# Altium schematic symbol library ARMflash_revC.SCHLIB: 113 symbols (part 2 of 2)
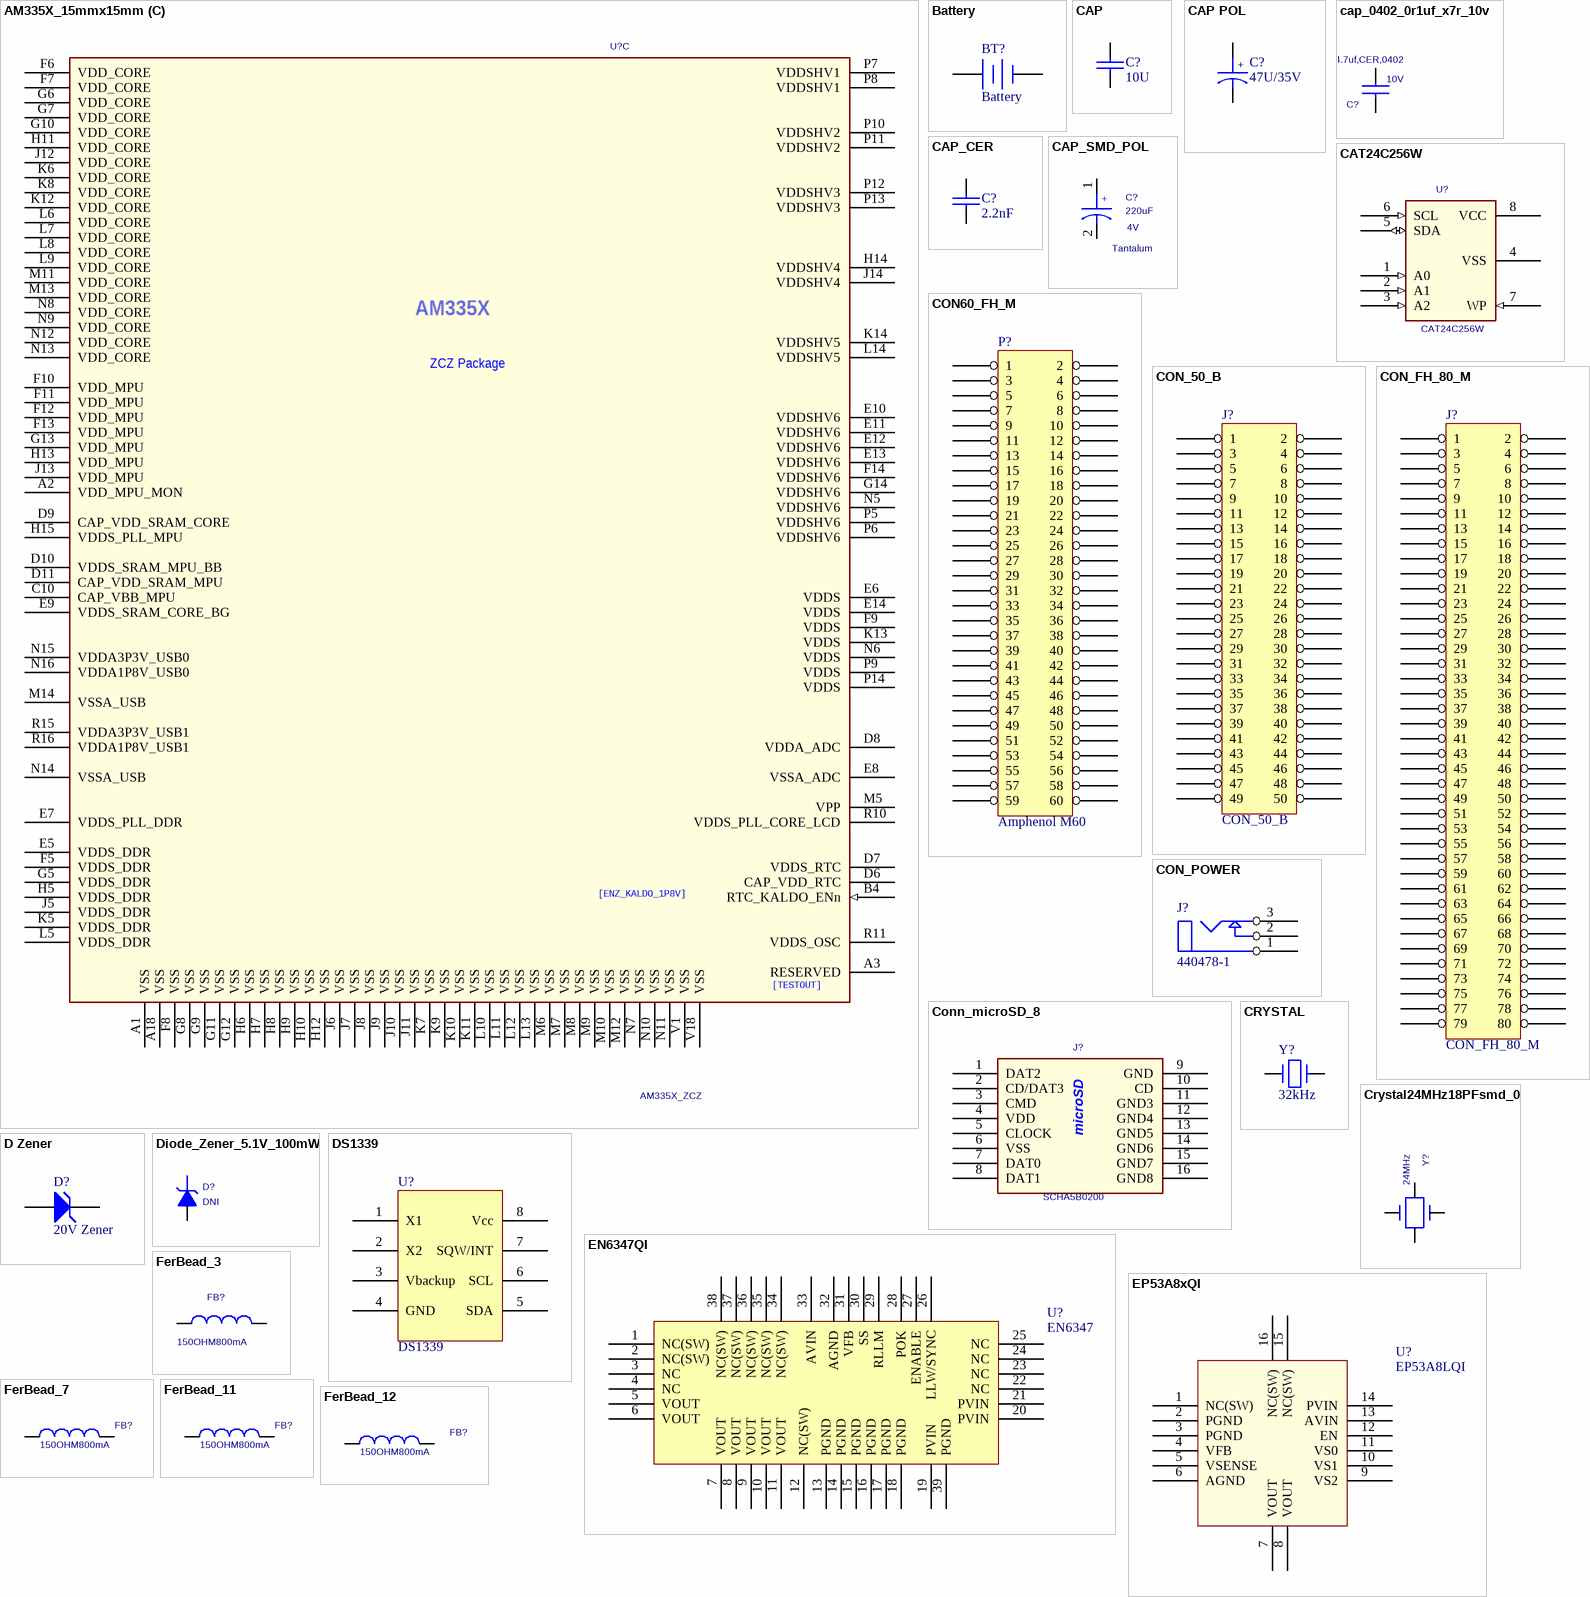
[diagram p9: symbols AM335X_15mmx15mm to FerBead_12]

## EN6347QI
designator U?, comment EN6347
4A PSU power module
footprint EN6347QI - DFN (Enpirion PSU)
pins: 1 NC(SW), 2 NC(SW), 3 NC, 4 NC, 5 VOUT, 6 VOUT, 7 VOUT, 8 VOUT, 9 VOUT, 10 VOUT, 11 VOUT, 12 NC(SW), 13 PGND, 14 PGND, 15 PGND, 16 PGND, 17 PGND, 18 PGND, 19 PVIN, 20 PVIN, 21 PVIN, 22 NC, 23 NC, 24 NC, 25 NC, 26 LLW/SYNC, 27 ENABLE, 28 POK, 29 RLLM, 30 SS, 31 VFB, 32 AGND, 33 AVIN, 34 NC(SW), 35 NC(SW), 36 NC(SW), 37 NC(SW), 38 NC(SW), 39 PGND

## EP53A8xQI
designator U?, comment EP53A8LQI
footprint LCC 16pin 3x3 mm (EP53A8)
pins: 1 NC(SW), 2 PGND, 3 PGND, 4 VFB, 5 VSENSE, 6 AGND, 7 VOUT, 8 VOUT, 9 VS2, 10 VS1, 11 VS0, 12 EN, 13 AVIN, 14 PVIN, 15 NC(SW), 16 NC(SW)

## FerBead_3
designator FB?, comment 150OHM800mA
Ferrite Bead 150 Ohm 800mA; Mfr: Steward; MfrNum: LI0805H151R-10; TIIntPartnumber: 1L0010; Vendor: Digikey; Cost100: 0.068; Cost10K: 0.045; DescriptiveText: Ferrite Bead 150 Ohm 800mA; PartName: FerriteBead150ohm800mA; Descriptive_Text: Ferrite Bead 150 Ohm 800mA
footprint sm-7351-ind-0805 (SM-7351-IND-0805)
footprint sm-7351-ind-0805
pins: 1, 2

## FerBead_7
designator FB?, comment 150OHM800mA
Ferrite Bead 150 Ohm 800mA; Mfr: Steward; MfrNum: LI0805H151R-10; TIIntPartnumber: 1L0010; Vendor: Digikey; Cost100: 0.068; Cost10K: 0.045; DescriptiveText: Ferrite Bead 150 Ohm 800mA; PartName: FerriteBead150ohm800mA; Descriptive_Text: Ferrite Bead 150 Ohm 800mA
footprint sm-7351-ind-0805
footprint sm-7351-ind-0805
pins: 1, 2

## FerBead_11
designator FB?, comment 150OHM800mA
Ferrite Bead 150 Ohm 800mA; Mfr: Steward; MfrNum: LI0805H151R-10; TIIntPartnumber: 1L0010; Vendor: Digikey; Cost100: 0.068; Cost10K: 0.045; DescriptiveText: Ferrite Bead 150 Ohm 800mA; PartName: FerriteBead150ohm800mA; Descriptive_Text: Ferrite Bead 150 Ohm 800mA
footprint sm-7351-ind-0805
footprint sm-7351-ind-0805
pins: 1, 2

## FerBead_12
designator FB?, comment 150OHM800mA
Ferrite Bead 150 Ohm 800mA; Mfr: Steward; MfrNum: LI0805H151R-10; TIIntPartnumber: 1L0010; Vendor: Digikey; Cost100: 0.068; Cost10K: 0.045; DescriptiveText: Ferrite Bead 150 Ohm 800mA; PartName: FerriteBead150ohm800mA; Descriptive_Text: Ferrite Bead 150 Ohm 800mA
footprint sm-7351-ind-0805
footprint sm-7351-ind-0805
pins: 1, 2

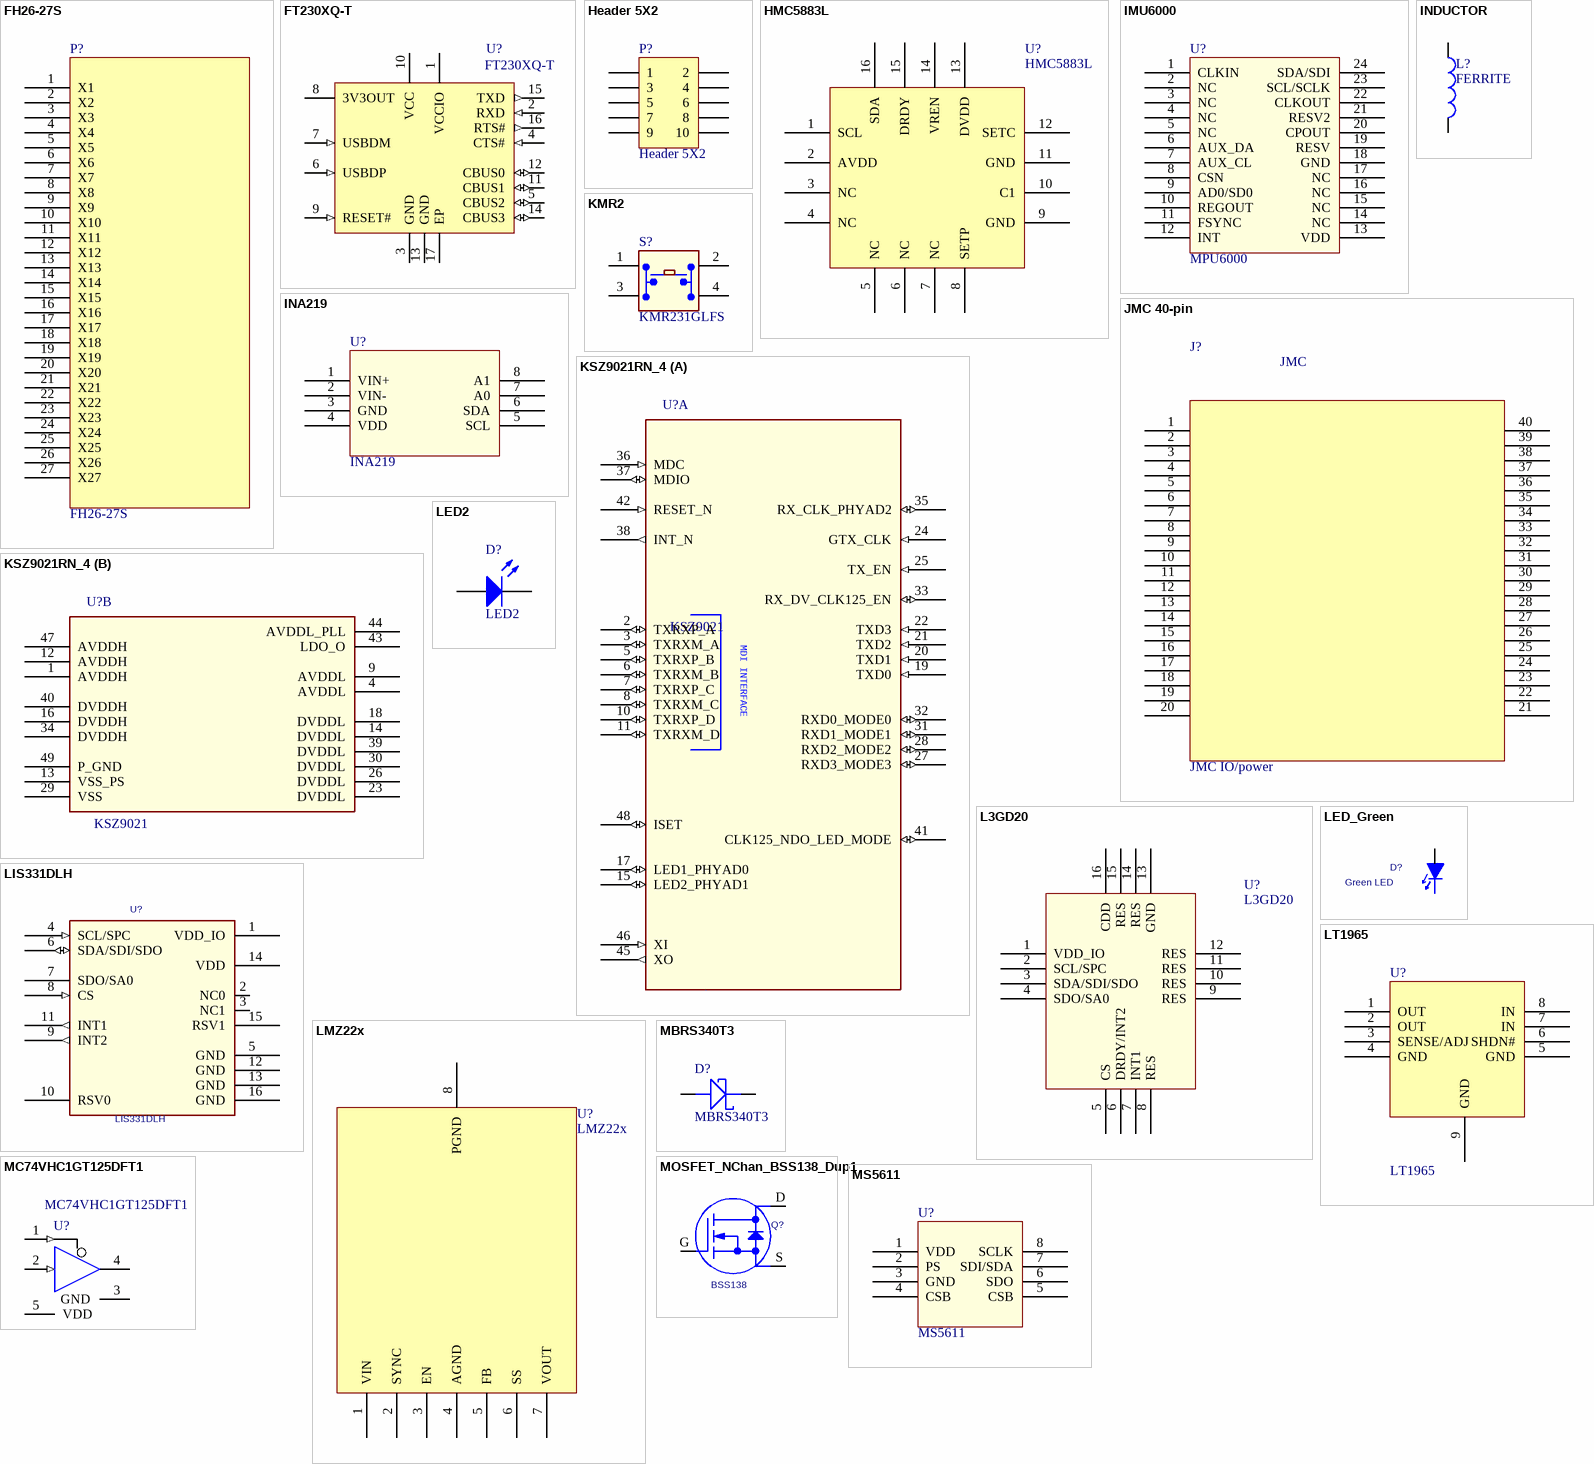
[diagram p7: symbols FH26-27S to MS5611]

## FH26-27S
designator P?
Flexible PCB connector
footprint FH26-27S (Flexible Board ZIF connector)
pins: 1 X1, 2 X2, 3 X3, 4 X4, 5 X5, 6 X6, 7 X7, 8 X8, 9 X9, 10 X10, 11 X11, 12 X12, 13 X13, 14 X14, 15 X15, 16 X16, 17 X17, 18 X18, 19 X19, 20 X20, 21 X21, 22 X22, 23 X23, 24 X24, 25 X25, 26 X26, 27 X27

## FT230XQ-T
designator U?
USB to Basic UART Interface Chip, UHCI/OHCI/EHCI Compatible, USB 2.0 Compatible, -40 to +85 degC, 16-Pin QFN, Pb-Free, Tray; Manufacturer: FTDI; DatasheetVersion: ver 1.2, Feb-2013; PackageVersion: Feb-13; PackageReference: QFN-16; PackageDescription: 16-Pin Quad Flat No-Lead, 4x4 mm Body, 0.65 mm Pitch; Code_JEDEC: MO-220WGGC; PartNumber: FT230XQ-T; ComponentLink1Description: Manufacturer URL; ComponentLink1URL: http://www.ftdichip.com/; ComponentLink2Description: Datasheet; ComponentLink2URL: http://www.ftdichip.com/Support/Documents/DataSheets/ICs/DS_FT230X.pdf; ComponentLink3Description: FT230X Product Page; ComponentLink3URL: www.ftdichip.com/Products/ICs/FT230X.html
footprint QFN-16_N
footprint QFN-16_L (QFN, 16-Leads, Body 4x4mm, Pitch 0.65mm, Thermal Pad 2.1x2.1mm, IPC High Density)
footprint QFN-16_M (QFN, 16-Leads, Body 4x4mm, Pitch 0.65mm, Thermal Pad 2.1x2.1mm, IPC Low Density)
pins: 1 VCCIO (power) "1V8 -3V3 supply for the IO cells.", 2 RXD (in) "Receiving Asynchronous Data Input.", 3 GND (power) "0V Ground input.", 4 CTS# (in) "Clear To Send Control Input / Handshake Signal.", 5 CBUS2 (io) "Configurable CBUS I/O Pin. Function of this pin is configured in the device MTP memory. The default configuration is TXLED#.", 6 USBDP (in) "USB Data Signal Plus.", 7 USBDM (in) "USB Data Signal Minus.", 8 3V3OUT (power) "3V3 output at 50mA. May be used to power VCCIO. When VCC is 3V3; pin 8 is an input pin and should be connected to pin 10.", 9 RESET# (in) "Reset input (active low).", 10 VCC (power) "5 V (or 3V3) supply to IC.", 11 CBUS1 (io) "Configurable CBUS I/O Pin. Function of this pin is configured in the device MTP memory. The default configuration is RXLED#.", 12 CBUS0 (io) "Configurable CBUS I/O Pin. Function of this pin is configured in the device MTP memory. The default configuration is TXDEN.", 13 GND (power) "0V Ground input.", 14 CBUS3 (io) "Configurable CBUS I/O Pin. Function of this pin is configured in the device MTP memory. The default configuration is SLEEP#.", 15 TXD (out) "Transmit Asynchronous Data Output.", 16 RTS# (out) "Request to Send Control Output / Handshake Signal.", 17 EP (power) "Exposed Pad. Connect to GND."

## Header 5X2
designator P?
Header, 5-Pin, Dual row; LatestRevisionDate: 17-Jul-2002; LatestRevisionNote: Re-released for DXP Platform.; Publisher: Altium Limited
footprint HDR2X5 (Connector; Header; 5x2 Position)
signal-integrity model Connector
pins: 1, 2, 3, 4, 5, 6, 7, 8, 9, 10

## HMC5883L
designator U?
3D Magnetometer
footprint LPCC package (LCC, 16-Pins, Body 3.0x3.0mm (max), Pitch 0.50mm, IPC Medium Density)
pins: 1 SCL, 2 AVDD, 3 NC, 4 NC, 5 NC, 6 NC, 7 NC, 8 SETP, 9 GND, 10 C1, 11 GND, 12 SETC, 13 DVDD, 14 VREN, 15 DRDY, 16 SDA

## IMU6000
designator U?, comment MPU6000
Invensemse 6-axis MPU; supplier: Digikey  1428-1005-1-ND
footprint QFN_EPAD_24
pins: 1 CLKIN, 2 NC, 3 NC, 4 NC, 5 NC, 6 AUX_DA, 7 AUX_CL, 8 CSN, 9 AD0/SD0, 10 REGOUT, 11 FSYNC, 12 INT, 13 VDD, 14 NC, 15 NC, 16 NC, 17 NC, 18 GND, 19 RESV, 20 CPOUT, 21 RESV2, 22 CLKOUT, 23 SCL/SCLK, 24 SDA/SDI

## INA219
designator U?
Current/Power Monitor I2C
footprint SOT23-8
footprint SO8
pins: 1 VIN+, 2 VIN-, 3 GND, 4 VDD, 5 SCL, 6 SDA, 7 A0, 8 A1

## INDUCTOR
designator L?, comment FERRITE
INDUCTOR
footprint 1210
footprint IND_MSS1260
footprint IND_MSS6132
footprint 0805
footprint SC0603
pins: 1, 2

## JMC 40-pin
designator J?, comment JMC IO/power
JST JMC 40 pin connector
footprint JMCS - 40pin (JST JMC connector)
footprint JMCS - 40pin (JST JMC connector)
footprint 40 Pin Female
pins: 1, 2, 3, 4, 5, 6, 7, 8, 9, 10, 11, 12, 13, 14, 15, 16, 17, 18, 19, 20, 21, 22, 23, 24, 25, 26, 27, 28, 29, 30, 31, 32, 33, 34, 35, 36, 37, 38, 39, 40
text: JMC

## KMR2
designator S?, comment KMR231GLFS
Microminiature Tact Switch for SMT; Manufacturer: C&K Components; Circuit: SPST-NO; Switch Function: Off-Mom; Contact Rating @ Voltage: 0.05A @ 32VDC; Actuator Type: Standard; Actuator Height off PCB, from Pins: 1.90mm; Actuator Orientation: Top Actuated; Outline: 4.60mm x 2.80mm; Illumination: Non-Illuminated; Operating Force: 300gf; Switch Travel: 0.25mm; Mechanical Life: 150,000 Cycles; Supplier 1: Digi-Key; Supplier Part Number 1: 401-1429-6-ND; Manufacturer Part Number: KMR231GLFS; RoHS: RoHS Compliant; Category: Switches; Stock 1: 32289; Pricing 1: 1=0.44, 10=0.416, 25=0.3744, 50=0.3326, 100=0.3188, 250=0.29108, 500=0.2772, 1000=0.22869 (USD); Mounting Type: Surface Mount; Termination Style: Gull Wing; Illumination Voltage (Nominal): -; Illumination Type, Color: -; Ingress Protection: -; Features: Grounding Pin; Packaging: Digi-Reel®; Actuator Material: -; Operating Temperature: -40°C ~ 85°C; ComponentLink1URL: http://www.ck-components.com/index.php?module=media&action=Display&cmpref=14414&lang=en&width=&height=&format=&alt=; ComponentLink1Description: http://www.ck-components.com/index.php?module=media&action=Display&cmpref=14414&lang=en&width=&height=&format=&alt=
footprint SW4SMD_63X161LS
pins: 1 A1, 2 A2, 3 A3, 4 (power)

## KSZ9021RN_4
designator U?, comment KSZ9021
footprint BCC96
footprint QFN48
footprint QFN48_0.5mmPitch (QFN 48 pin 0.5mm pitch)
part A pins: 2 TXRXP_A (io), 3 TXRXM_A (io), 5 TXRXP_B (io), 6 TXRXM_B (io), 7 TXRXP_C (io), 8 TXRXM_C (io), 10 TXRXP_D (io), 11 TXRXM_D (io), 15 LED2_PHYAD1 (io), 17 LED1_PHYAD0 (io), 19 TXD0 (in), 20 TXD1 (in), 21 TXD2 (in), 22 TXD3 (in), 24 GTX_CLK (in), 25 TX_EN (in), 27 RXD3_MODE3 (io), 28 RXD2_MODE2 (io), 31 RXD1_MODE1 (io), 32 RXD0_MODE0 (io), 33 RX_DV_CLK125_EN (io), 35 RX_CLK_PHYAD2 (io), 36 MDC (in), 37 MDIO (io), 38 INT_N (out), 41 CLK125_NDO_LED_MODE (io), 42 RESET_N (in), 45 XO (out), 46 XI (in), 48 ISET (io)
part B pins: 1 AVDDH (power), 4 AVDDL (power), 9 AVDDL (power), 12 AVDDH (power), 13 VSS_PS (power), 14 DVDDL (power), 16 DVDDH (power), 18 DVDDL (power), 23 DVDDL (power), 26 DVDDL (power), 29 VSS (power), 30 DVDDL (power), 34 DVDDH (power), 39 DVDDL (power), 40 DVDDH (power), 43 LDO_O (power), 44 AVDDL_PLL (power), 47 AVDDH (power), 49 P_GND (power)
part A text: MDI INTERFACE

## L3GD20
designator U?
footprint LCC 16pin 4x4mm 0.65mm pitch
pins: 1 VDD_IO, 2 SCL/SPC, 3 SDA/SDI/SDO, 4 SDO/SA0, 5 CS, 6 DRDY/INT2, 7 INT1, 8 RES, 9 RES, 10 RES, 11 RES, 12 RES, 13 GND, 14 RES, 15 RES, 16 CDD

## LED2
designator D?
Typical RED, GREEN, YELLOW, AMBER GaAs LED; Published: 8-Jun-2000; LatestRevisionDate: 17-Jul-2002; LatestRevisionNote: Re-released for DXP Platform.; PackageReference: 3.2X1.6X1.1; Publisher: Altium Limited; PackageVersion: Feb-2002
footprint DSO-F2/D6.1 (SMT LED; 2 Flat Leads)
simulation model LED2 (Diode)
footprint 0603
pins: 1 A, 2 K

## LED_Green
designator D?, comment Green LED
TIIntPartnumber: 1F0008; MfrNum: 598-8170-107F; Mfr: Dialight; PartName: LEDGreen2x1.5; DescriptiveText: LED Green SMD 20mA 2V 0805; Cost10K: 0.0370; Cost100: 0.081; Vendor: Digikey
footprint sm_led_0805
footprint sm_led_0805
pins: 1 Cathode, 2 Anode

## LIS331DLH
designator U?
Accelerometer 3 Axis I2C; Mfr: ST Microelectronics; TIIntPartnumber: 1A0227; Vendor: Digikey; Cost100: 8.05; Cost10K: 2.25; DescriptiveText: Accelerometer 3 Axis I2C; PartName: LIS331DLH; MfrNum: LIS331DLH; Descriptive_Text: Accelerometer 3 Axis I2C
footprint LGA16pin_3x3 (LGA16PIN_3X3)
footprint LGA16pin_3x3
pins: 1 VDD_IO (power), 2 NC0 (power), 3 NC1 (power), 4 SCL/SPC (in), 5 GND (power), 6 SDA/SDI/SDO (io), 7 SDO/SA0, 8 CS (in), 9 INT2 (out), 10 RSV0, 11 INT1 (out), 12 GND (power), 13 GND (power), 14 VDD (power), 15 RSV1, 16 GND (power)

## LMZ22x
designator U?
Power Module
footprint TZA07A (TO-PMOD7 8-Pads, Body 10.1x10.4mm (max), IPC High Density)
pins: 1 VIN, 2 SYNC, 3 EN, 4 AGND, 5 FB, 6 SS, 7 VOUT, 8 PGND

## LT1965
designator U?
LDO regulator adjustable
footprint DD package
footprint Osc 3.2x2.5
pins: 1 OUT, 2 OUT, 3 SENSE/ADJ, 4 GND, 5 GND, 6 SHDN#, 7 IN, 8 IN, 9 GND

## MBRS340T3
designator D?
SCHOTTKY DIODE
footprint SMC
pins: 1 ANODE, 2 CATHODE

## MC74VHC1GT125DFT1
designator U?
Non-Inverting Buffer / CMOS Logic Level Shifter with LSTTL-Compatible Inputs; Published: 15-Apr-2002; LatestRevisionDate: 12-Dec-2006; LatestRevisionNote: IPC-7351 Footprint Added.; DatasheetVersion: Feb-2000; PackageVersion: Oct-1999; PackageReference: 419A-01; Publisher: Altium Limited; PackageDescription: 5-Pin SOT-353 Package 0.65 mm Pitch, 2.1 mm Lead Span; ComponentLink1Description: Manufacturer Link; ComponentLink1URL: http://www.onsemi.com/
footprint 419A-01_N
footprint 419A-01_L (SOT353, 5-Leads, Body 2x1.3mm, Pitch 0.65mm, Lead Span 2.1mm, IPC High Density)
footprint 419A-01_M (SOT353, 5-Leads, Body 2x1.3mm, Pitch 0.65mm, Lead Span 2.1mm, IPC Low Density)
pins: 1 ~{OE} (in), 2 A (in), 3 GND (power) hidden to GND, 4 Y (hiz), 5 VDD (power) hidden to VDD

## MOSFET_NChan_BSS138_Dup1
designator Q?, comment BSS138
MOSFET Nchan 50V 200mA; TIIntPartnumber: 1Q0019; MfrNum: BSS138-7-F; Mfr: Diodes Inc.; PartName: MOSFET_NChan_BSS138; Cost10K: 0.030; Cost100: 0.18; Vendor: Digikey; TN: 289-0091-000; Descriptive_Text: MOSFET Nchan 50V 200mA; DescriptiveText: MOSFET Nchan 50V 200mA
footprint SOT23-3
footprint SOT23-3
pins: D DRAIN, G GATE, S SOURCE

## MS5611
designator U?
Pressure Sensor; supplier: Avnet
footprint MS5611-01BA03 (MS5611 package)
pins: 1 VDD, 2 PS, 3 GND, 4 CSB, 5 CSB, 6 SDO, 7 SDI/SDA, 8 SCLK

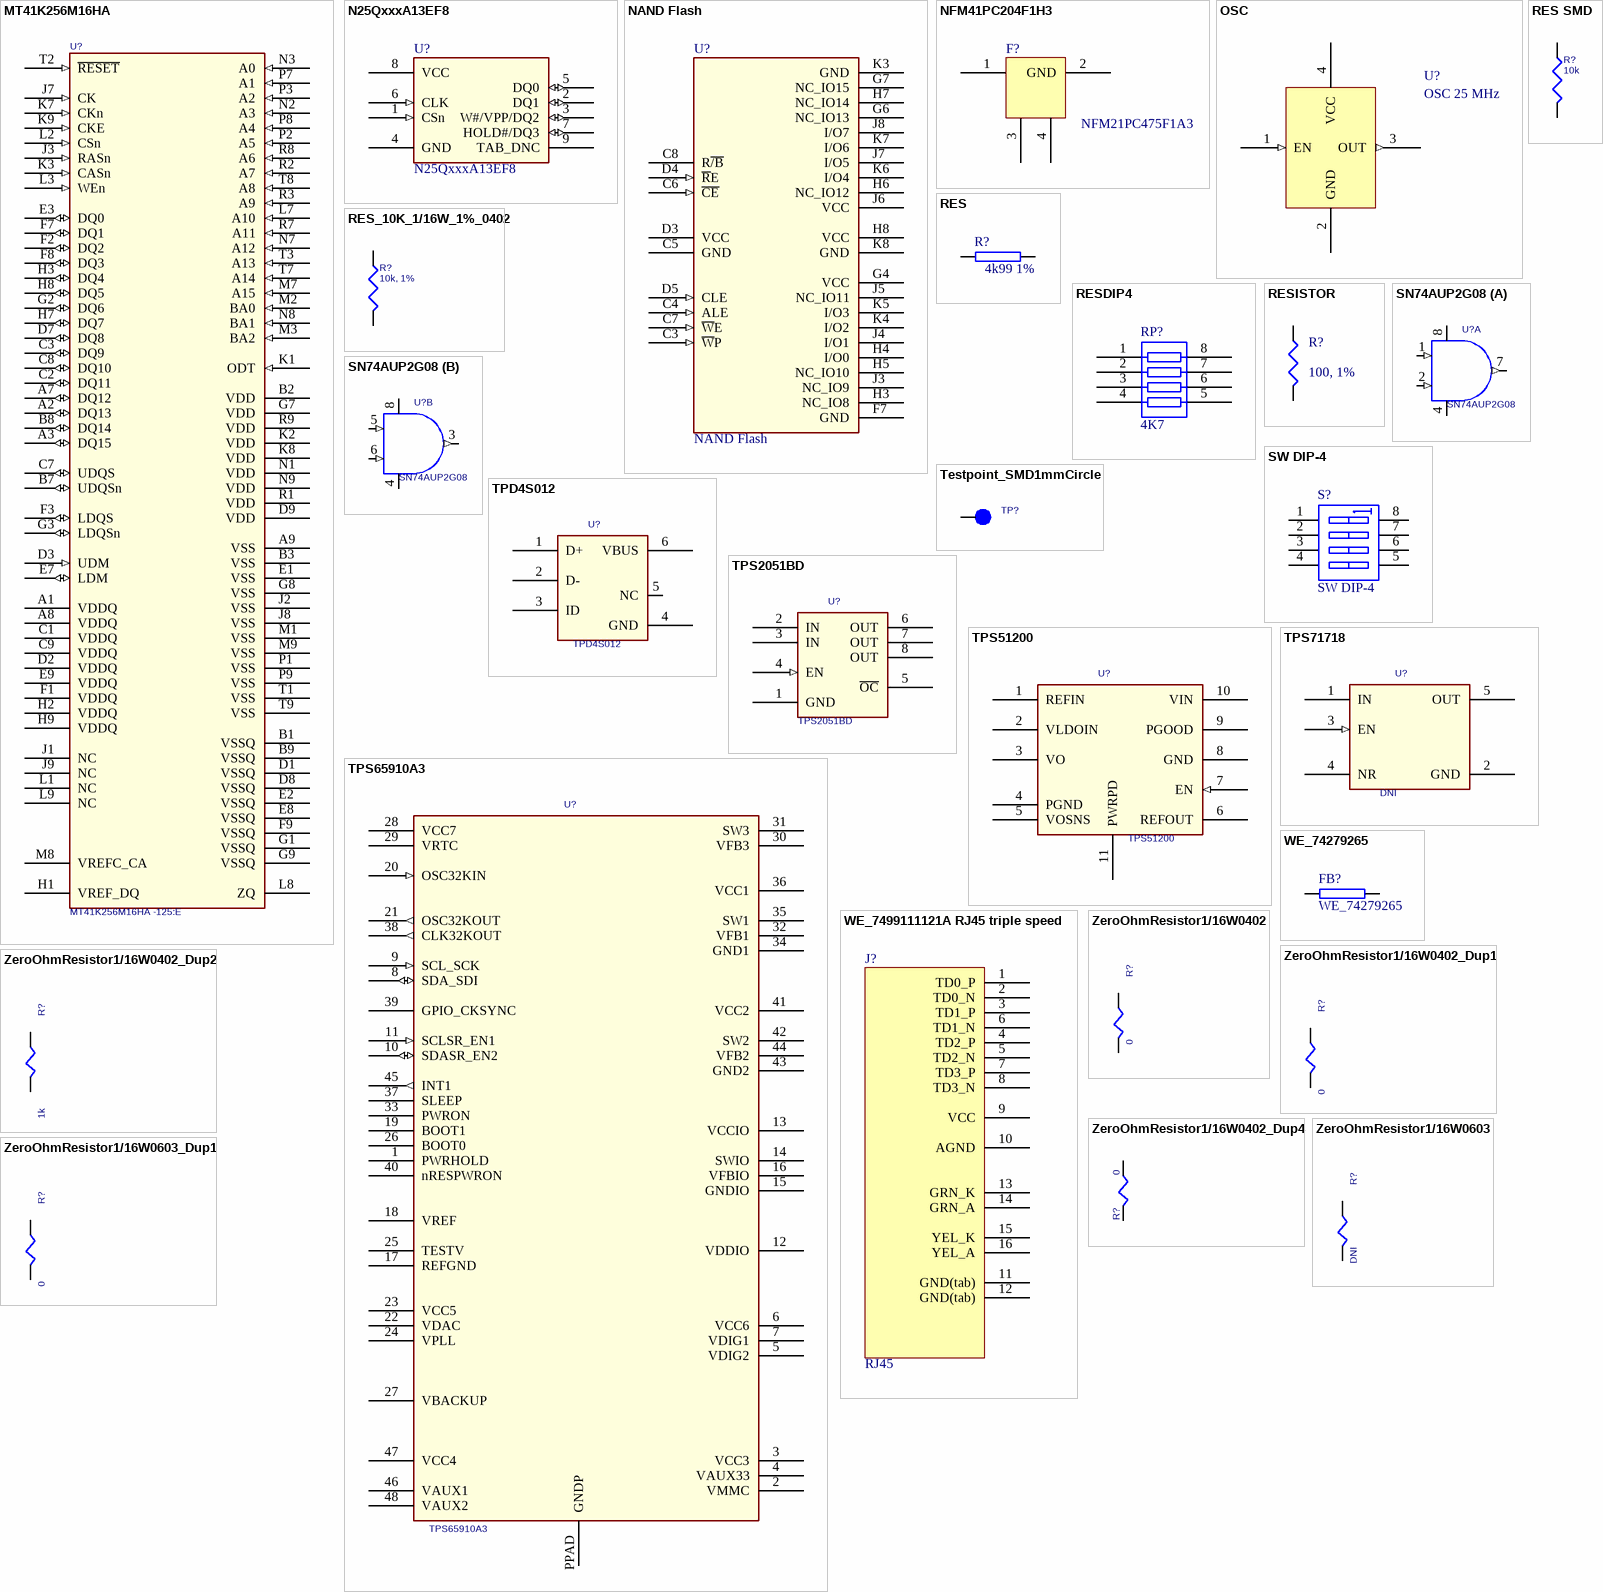
[diagram p8: symbols MT41K256M16HA to ZeroOhmResistor1/16W0603_Dup1]

## MT41K256M16HA
designator U?, comment MT41K256M16HA -125:E
DDR2 SDRAM 2Gb (256Mx8); Manufacturer: Micron Technology; Lead Time: 0 weeks; Peak Solder Temperature: 260 deg C; Supplier 1: Arrow; Supplier Part Number 1: 52128708S9959891N2406; Manufacturer Part Number: MT41K256M16HA-125:E; RoHS: CHINA ROHS: Compliant / EU ROHS: Compliant; Stock 1: 0; Pricing 1: 0=10.09 (USD); Package Quantity: 1; Termination Finish: Sn/Ag/Cu; China ROHS Lead (X -> above / O -> below threshold): O; China ROHS Mercury (X -> above / O -> below threshold): O; China ROHS Cadmium (X -> above / O -> below threshold): O; China ROHS Hex Chromium (X -> above / O -> below threshold): O; China ROHS PBB (X -> above / O -> below threshold): O; China ROHS PBDE (X -> above / O -> below threshold): O; EU_ROHS_PROD_EXEMPTION_BY_SUPP: N/R; ComponentLink1URL: http://components.arrow.com/partservice/dataview/altium/52128708S9959891N2406?apiKey=aa438727d59eed98c4bed826d8d949c84cb5e685b92bf87346a0226bd2658797; ComponentLink1Description: http://components.arrow.com/partservice/dataview/altium/52128708S9959891N2406?apiKey=aa438727d59eed98c4bed826d8d949c84cb5e685b92bf87346a0226bd2658797
footprint BGA96_T9_P8_9X14
footprint BGA14X10-96
pins: A1 VDDQ (power), A2 DQ13 (io), A3 DQ15 (io), A7 DQ12 (io), A8 VDDQ (power), A9 VSS (power), B1 VSSQ (power), B2 VDD (power), B3 VSS (power), B7 UDQSn (io), B8 DQ14 (io), B9 VSSQ (power), C1 VDDQ (power), C2 DQ11 (io), C3 DQ9 (io), C7 UDQS (io), C8 DQ10 (io), C9 VDDQ (power), D1 VSSQ (power), D2 VDDQ (power), D3 UDM (in), D7 DQ8 (io), D8 VSSQ (power), D9 VDD (power), E1 VSS (power), E2 VSSQ (power), E3 DQ0 (io), E7 LDM (io), E8 VSSQ (power), E9 VDDQ (power), F1 VDDQ (power), F2 DQ2 (io), F3 LDQS (io), F7 DQ1 (io), F8 DQ3 (io), F9 VSSQ (power), G1 VSSQ (power), G2 DQ6 (io), G3 LDQSn (io), G7 VDD (power), G8 VSS (power), G9 VSSQ (power), H1 VREF_DQ, H2 VDDQ (power), H3 DQ4 (io), H7 DQ7 (io), H8 DQ5 (io), H9 VDDQ (power), J1 NC, J2 VSS (power), J3 RASn (in), J7 CK (in), J8 VSS (power), J9 NC, K1 ODT (in), K2 VDD (power), K3 CASn (in), K7 CKn (in), K8 VDD (power), K9 CKE (in), L1 NC (power), L2 CSn (in), L3 WEn (in), L7 A10 (in), L8 ZQ, L9 NC (power), M1 VSS (power), M2 BA0 (in), M3 BA2 (in), M7 A15 (in), M8 VREFC_CA (power), M9 VSS (power), N1 VDD (power), N2 A3 (in), N3 A0 (in), N7 A12 (in), N8 BA1 (in), N9 VDD (power), P1 VSS (power), P2 A5 (in), P3 A2 (in), P7 A1 (in), P8 A4 (in), P9 VSS (power), R1 VDD (power), R2 A7 (in), R3 A9 (in), R7 A11 (in), R8 A6 (in), R9 VDD (power), T1 VSS (power), T2 ~{RESET} (in), T3 A13 (in), T7 A14 (in), T8 A8 (in), T9 VSS (power)

## N25QxxxA13EF8
designator U?
footprint QFN127P600X500X85_HS-9N (QFN, 8-Leads, Body 6.00x5.00mm, Pitch 1.27mm, Thermal Pad 3.40x4.05mm, IPC Medium Density)
pins: 1 CSn (in), 2 DQ1 (io), 3 W#/VPP/DQ2 (io), 4 GND (power), 5 DQ0 (io), 6 CLK (in), 7 HOLD#/DQ3 (io), 8 VCC (power), 9 TAB_DNC

## NAND Flash
designator U?
MT29F2Gxx; PartNumber: 557-1486-2-ND; Seller: Digikey; Supplier: MT29F2Gxx
footprint VFBGA - 63 (ONFI Flash NAND flash)
pins: C3 ~{W}P (in), C4 ALE (in), C5 GND (power), C6 ~{CE} (in), C7 ~{W}E (in), C8 R~{/B} (oc), D3 VCC (power), D4 ~{R}E (in), D5 CLE (in), F7 GND (power), G4 VCC (power), G6 NC_IO13, G7 NC_IO15, H3 NC_IO8, H4 I/O0 (hiz), H5 NC_IO10, H6 NC_IO12, H7 NC_IO14, H8 VCC (power), J3 NC_IO9, J4 I/O1 (hiz), J5 NC_IO11, J6 VCC (power), J7 I/O5 (hiz), J8 I/O7 (hiz), K3 GND (power), K4 I/O2 (hiz), K5 I/O3 (hiz), K6 I/O4 (hiz), K7 I/O6 (hiz), K8 GND (power)

## NFM41PC204F1H3
designator F?, comment NFM21PC475F1A3
3 terminal feedthough filter capacitor; Farnell Order Code: 1686512
footprint 1806_FILTER
footprint EM chip filter 0805 (Murata chip filter four connections)
pins: 1, 2 GND, 3, 4

## OSC
designator U?, comment OSC 25 MHz
XTAL OSCILLATOR MODULE
footprint 5X7_OSC
footprint 3X5_OSC
footprint osc5x3.2 (oscillator)
footprint osc5x3.2 (oscillator)
footprint Osc 3.2x2.5
pins: 1 EN (in), 2 GND (power), 3 OUT (out), 4 VCC (power)

## RES
designator R?, comment 4k99 1%
RESISTOR
footprint 0603
footprint 0805
footprint 1206
footprint sc0402 (0402 passive circular)
pins: 1, 2

## RES SMD
designator R?, comment 10k
RES 10K OHM 1/16W 5% 0402 SMD; Manufacturer: Rohm Semiconductor; Manufacturer Part Number: MCR01MZPJ103; Power (Watts): 0.063W, 1/16W; Temperature Coefficient: ±200ppm/°C; Supplier 1: Digi-Key; Supplier Part Number 1: RHM10KJDKR-ND; RoHS: RoHS Compliant; Category: Resistors; Stock 1: 460442; Pricing 1: 1=0.1, 10=0.019, 25=0.014, 100=0.0078, 250=0.00596, 500=0.00476, 1000=0.0035, 5000=0.00251 (USD); Resistance (Ohms): 10k; Composition: Thick Film; Features: Automotive AEC-Q200 Qualified; Tolerance: ±5%; Package / Case: 0402 (1005 Metric); Supplier Device Package: 0402 (1005 Metric); Size / Dimension: 0.039" L x 0.020" W (1.00mm x 0.50mm); Height: 0.016" (0.40mm); Number of Terminations: 2; Packaging: Digi-Reel®; ComponentLink1URL: http://rohmfs.rohm.com/en/products/databook/datasheet/passive/resistor/chip_resistor/mcr_a.pdf; ComponentLink1Description: http://rohmfs.rohm.com/en/products/databook/datasheet/passive/resistor/chip_resistor/mcr_a.pdf
footprint 402
pins: 1 P1, 2 P2

## RES_10K_1/16W_1%_0402
designator R?, comment 10k, 1%
RES 10K OHM 1/16W 5% 0402 SMD; Manufacturer: Rohm Semiconductor; Manufacturer Part Number: MCR01MZPJ103; Power (Watts): 0.063W, 1/16W; Temperature Coefficient: ±200ppm/°C; Category: Resistors; ComponentLink1Description: http://rohmfs.rohm.com/en/products/databook/datasheet/passive/resistor/chip_resistor/mcr_a.pdf; ComponentLink1URL: http://rohmfs.rohm.com/en/products/databook/datasheet/passive/resistor/chip_resistor/mcr_a.pdf; Composition: Thick Film; Features: Automotive AEC-Q200 Qualified; Height: 0.016" (0.40mm); Number of Terminations: 2; Package / Case: 0402 (1005 Metric); Packaging: Digi-Reel®; Pricing 1: 1=0.1, 10=0.019, 25=0.014, 100=0.0078, 250=0.00596, 500=0.00476, 1000=0.0035, 5000=0.00251 (USD); Resistance (Ohms): 10k; RoHS: RoHS Compliant; Size / Dimension: 0.039" L x 0.020" W (1.00mm x 0.50mm); Stock 1: 110842; Supplier 1: Digi-Key; Supplier Device Package: 0402 (1005 Metric); Supplier Part Number 1: RHM10KJDKR-ND; Tolerance: ±5%
footprint 402
footprint 402
footprint sm-7351-res-0402 - duplicate
pins: 1, 2

## RESDIP4
designator RP?, comment 4K7
QUAD DIP RESISTOR PACK; Part Field 1: 1; Part Field 10: 1000u; Part Field 2: 0; Part Field 3: 0; Part Field 4: 0; Part Field 5: 1; Part Field 6: 1000K; Part Field 7: 1u; Part Field 8: 1u; Part Field 9: 500u
footprint 1206X4
pins: 1, 2, 3, 4, 5, 6, 7, 8

## RESISTOR
designator R?, comment 100, 1%
footprint sc0402
pins: 1, 2

## SN74AUP2G08
designator U?
Low Power Dual AND Gate; TIIntPartnumber: 1A0249; MfrNum: SN74AUP2G08DCU; Mfr: TI; Cost10K: 0.1710; Cost100: 0.11; Vendor: Digikey; Descriptive_Text: Low Power Dual AND Gate; PartName: SN74AUP2G08; DescriptiveText: Low Power Dual AND Gate
footprint U_8_DCU
footprint U_8_DCU
part A pins: 1 2A (in), 2 2B (in), 4 GND (power), 7 2Y (out), 8 VCC (power)
part B pins: 3 2Y (out), 4 GND (power), 5 2A (in), 6 2B (in), 8 VCC (power)

## SW DIP-4
designator S?
DIP Switch, 4 Position, SPST; Published: 24-Mar-1999; LatestRevisionDate: 29-May-2009; LatestRevisionNote: IPC-7351 Footprint Added.; PackageReference: SO8; Publisher: Altium Limited; Code_JEDEC: MS-012-AA; Code_IPC: SOIC127P600-8; PackageVersion: Dec-2002; PackageDescription: 8-Pin Small Outline Integrated Circuit 1.27 mm Pitch
footprint DIPSOP8 (smd dip-4 switch)
footprint SOIC127P600-8L (SOIC, 8-Leads, Body 4.9x3.9mm, Pitch 1.27mm, IPC High Density)
footprint SOIC127P600-8M (SOIC, 8-Leads, Body 4.9x3.9mm, Pitch 1.27mm, IPC Low Density)
simulation model dpsw4 (Spice Subcircuit)
pins: 1 A1, 2 A2, 3 A3, 4 A4, 5 B4, 6 B3, 7 B2, 8 B1

## Testpoint_SMD1mmCircle
designator TP?, comment TP1mm  (value not drawn)
Testpoint SMD 1mm circle pad; TIIntPartnumber: 2H0046; Cost10K: 0.00; Cost100: 0; Descriptive_Text: Testpoint SMD 1mm circle pad; Vendor: N/A; MfrNum: N/A; Mfr: N/A; PartName: TestpointSMD1mmCircle; DescriptiveText: Testpoint SMD 1mm circle pad
footprint tp_smd1mmcircle
footprint tp_smd1mmcircle
pins: 1

## TPD4S012
designator U?
ESD 4channel USB Interface; Mfr: TI; MfrNum: TPD4S012DRY; TIIntPartnumber: 1A0233; Vendor: Digikey; Cost100: 0.76; Cost10K: 0.12; DescriptiveText: ESD 4channel USB Interface; PartName: TPD4S012; Descriptive_Text: ESD 4channel USB Interface
footprint U_6_DRY
footprint U_6_DRY
pins: 1 D+, 2 D-, 3 ID, 4 GND (power), 5 NC, 6 VBUS (power)

## TPS2051BD
designator U?
Power Distribution Switch Current Limited 500mA; Mfr: TI; TIIntPartnumber: 1A0286; Vendor: Digikey; Cost100: 1.70; Cost10K: 0.17; DescriptiveText: Power Distribution Switch Current Limited 500mA; PartName: TPS2051BD; MfrNum: TPS2051BD; Descriptive_Text: Power Distribution Switch Current Limited 500mA
footprint U_8_D
footprint U_8_D
pins: 1 GND (power), 2 IN (power), 3 IN (power), 4 EN (in), 5 ~{OC} (oc), 6 OUT (power), 7 OUT (power), 8 OUT (power)

## TPS51200
designator U?
TIIntPartnumber: 1A0297; MfrNum: TPS51200DRC; Mfr: TI; Cost10K: 0.39; Cost100: 1.11; Vendor: Digikey; DescriptiveText: DDR Termination Regulator SinkSource; PartName: TPS51200
footprint drcpso_10pin
footprint drcpso_10pin
footprint SON10 (Plastic small outline PVSON-N10 Texas Instruments)
pins: 1 REFIN, 2 VLDOIN, 3 VO, 4 PGND (power), 5 VOSNS, 6 REFOUT, 7 EN (in), 8 GND (power), 9 PGOOD, 10 VIN, 11 PWRPD (power)

## TPS65910A3
designator U?
Mfr: TI; MfrNum: TPS65910A3A1RSL; TIIntPartnumber: 1A0303; DescriptiveText: Integrated Power Management Unit for DDR3; Vendor: Farnell; Cost100: 1.99; Cost10K: 1.11; Vendor Order No.: 2144288; PartName: TPS65910A3
footprint U_48_RSL
footprint U_48_RSL
pins: 1 PWRHOLD, 2 VMMC (power), 3 VCC3 (power), 4 VAUX33 (power), 5 VDIG2, 6 VCC6, 7 VDIG1, 8 SDA_SDI (io), 9 SCL_SCK (in), 10 SDASR_EN2 (io), 11 SCLSR_EN1 (in), 12 VDDIO, 13 VCCIO (power), 14 SWIO (power), 15 GNDIO (power), 16 VFBIO, 17 REFGND (power), 18 VREF, 19 BOOT1, 20 OSC32KIN (in), 21 OSC32KOUT (out), 22 VDAC (power), 23 VCC5 (power), 24 VPLL (power), 25 TESTV, 26 BOOT0, 27 VBACKUP (power), 28 VCC7, 29 VRTC, 30 VFB3, 31 SW3 (power), 32 VFB1, 33 PWRON, 34 GND1 (power), 35 SW1 (power), 36 VCC1, 37 SLEEP, 38 CLK32KOUT (out), 39 GPIO_CKSYNC, 40 nRESPWRON, 41 VCC2, 42 SW2 (power), 43 GND2 (power), 44 VFB2, 45 INT1 (out), 46 VAUX1 (power), 47 VCC4 (power), 48 VAUX2 (power), PPAD GNDP (power)

## TPS71718
designator U?, comment DNI
Low Dropout 1.8V 150mA Linear Regulator; PartName: TPS71718; Mfr: TI; MfrNum: TPS71718DCK; TIIntPartnumber: 1A0262; Vendor: Digikey; Cost100: 1.21; Cost10K: 0.7560; DescriptiveText: Low Dropout 1.8V 150mA Linear Regulator; Descriptive_Text: Low Dropout 1.8V 150mA Linear Regulator
footprint smdsc70-5 (SMDSC70-5)
footprint smdsc70-5
pins: 1 IN, 2 GND (power), 3 EN (in), 4 NR, 5 OUT

## WE_74279265
designator FB?
Wurth Eleckronik 0603 ferrite bead pn 74279265
footprint 0603 (0603 smd)
pins: 1, 2

## WE_7499111121A RJ45 triple speed
designator J?, comment RJ45
RJ45 Mag Jack triple speed
footprint RJ45_tripleSpeed
pins: 1 TD0_P, 2 TD0_N, 3 TD1_P, 4 TD2_P, 5 TD2_N, 6 TD1_N, 7 TD3_P, 8 TD3_N, 9 VCC, 10 AGND, 11 GND(tab), 12 GND(tab), 13 GRN_K, 14 GRN_A, 15 YEL_K, 16 YEL_A

## ZeroOhmResistor1/16W0402
designator R?, comment 0
PartName: ZeroohmSMD0402; Mfr: Panasonic; MfrNum: ERJ-2GE0R00X; TIIntPartnumber: 1R0098; DescriptiveText: Resistor Zero ohm Jumper 0402; Vendor: Digikey; Cost100: 0.08; Cost10K: 0.0020
footprint SM-7351-RES-0402
footprint SM-7351-RES-0402
pins: 1 P1, 2 P2

## ZeroOhmResistor1/16W0402_Dup1
designator R?, comment 0
Resistor Zero ohm Jumper 0402; TIIntPartnumber: 1R0098; MfrNum: ERJ-2GE0R00X; Mfr: Panasonic; PartName: ZeroohmSMD0402; Cost10K: 0.0020; Cost100: 0.08; Vendor: DIGIKEY; Descriptive_Text: Resistor Zero ohm Jumper 0402; DescriptiveText: Resistor Zero ohm Jumper 0402
footprint SM-7351-RES-0402
footprint SM-7351-RES-0402
pins: 1 P1, 2 P2

## ZeroOhmResistor1/16W0402_Dup2
designator R?, comment 1k
Resistor Zero ohm Jumper 0402; PartName: ZeroohmSMD0402; Mfr: Panasonic; MfrNum: ERJ-2GE0R00X; TIIntPartnumber: 1R0098; Vendor: DIGIKEY; Cost100: 0.08; Cost10K: 0.0020; DescriptiveText: Resistor Zero ohm Jumper 0402; Descriptive_Text: Resistor Zero ohm Jumper 0402
footprint SM-7351-RES-0402
footprint SM-7351-RES-0402
pins: 1 P1, 2 P2

## ZeroOhmResistor1/16W0402_Dup4
designator R?, comment 0
Resistor Zero ohm Jumper 0402; TIIntPartnumber: 1R0098; MfrNum: ERJ-2GE0R00X; Mfr: Panasonic; PartName: ZeroohmSMD0402; Cost10K: 0.0020; Cost100: 0.08; Vendor: Digikey; Descriptive_Text: Resistor Zero ohm Jumper 0402; DescriptiveText: Resistor Zero ohm Jumper 0402
footprint SM-7351-RES-0402
footprint SM-7351-RES-0402
pins: 1 P1, 2 P2

## ZeroOhmResistor1/16W0603
designator R?, comment DNI
Resistor Zero ohm Jumper 0603; TIIntPartnumber: 1R0096; MfrNum: ERJ-3GEY0R00V; Mfr: Panasonic; PartName: ZeroohmSMD0603; Cost10K: 0.058; Cost100: 0.08; Vendor: DIGIKEY; Descriptive_Text: Resistor Zero ohm Jumper 0603; DescriptiveText: Resistor Zero ohm Jumper 0603
footprint SM-7351-RES-0603
footprint SM-7351-RES-0603
pins: 1 P1, 2 P2

## ZeroOhmResistor1/16W0603_Dup1
designator R?, comment 0
Resistor Zero ohm Jumper 0603; PartName: ZeroohmSMD0603; Mfr: Panasonic; MfrNum: ERJ-3GEY0R00V; TIIntPartnumber: 1R0096; Vendor: Digikey; Cost100: 0.08; Cost10K: 0.058; DescriptiveText: Resistor Zero ohm Jumper 0603; Descriptive_Text: Resistor Zero ohm Jumper 0603
footprint SM-7351-RES-0603
footprint SM-7351-RES-0603
pins: 1 P1, 2 P2